# Altium footprint library alexsb.PCBLIB: 444 footprints (part 28 of 28)
Each footprint in its own frame and in the unit in brackets; x right, y up, seen from the top. Pads: shape width x height; smd on the part's side, far side on the other; paste and mask are expansions set on the pad; w line width, h text height; cw(c..) or ccw(c..) is an arc to the next point about the centre after c.
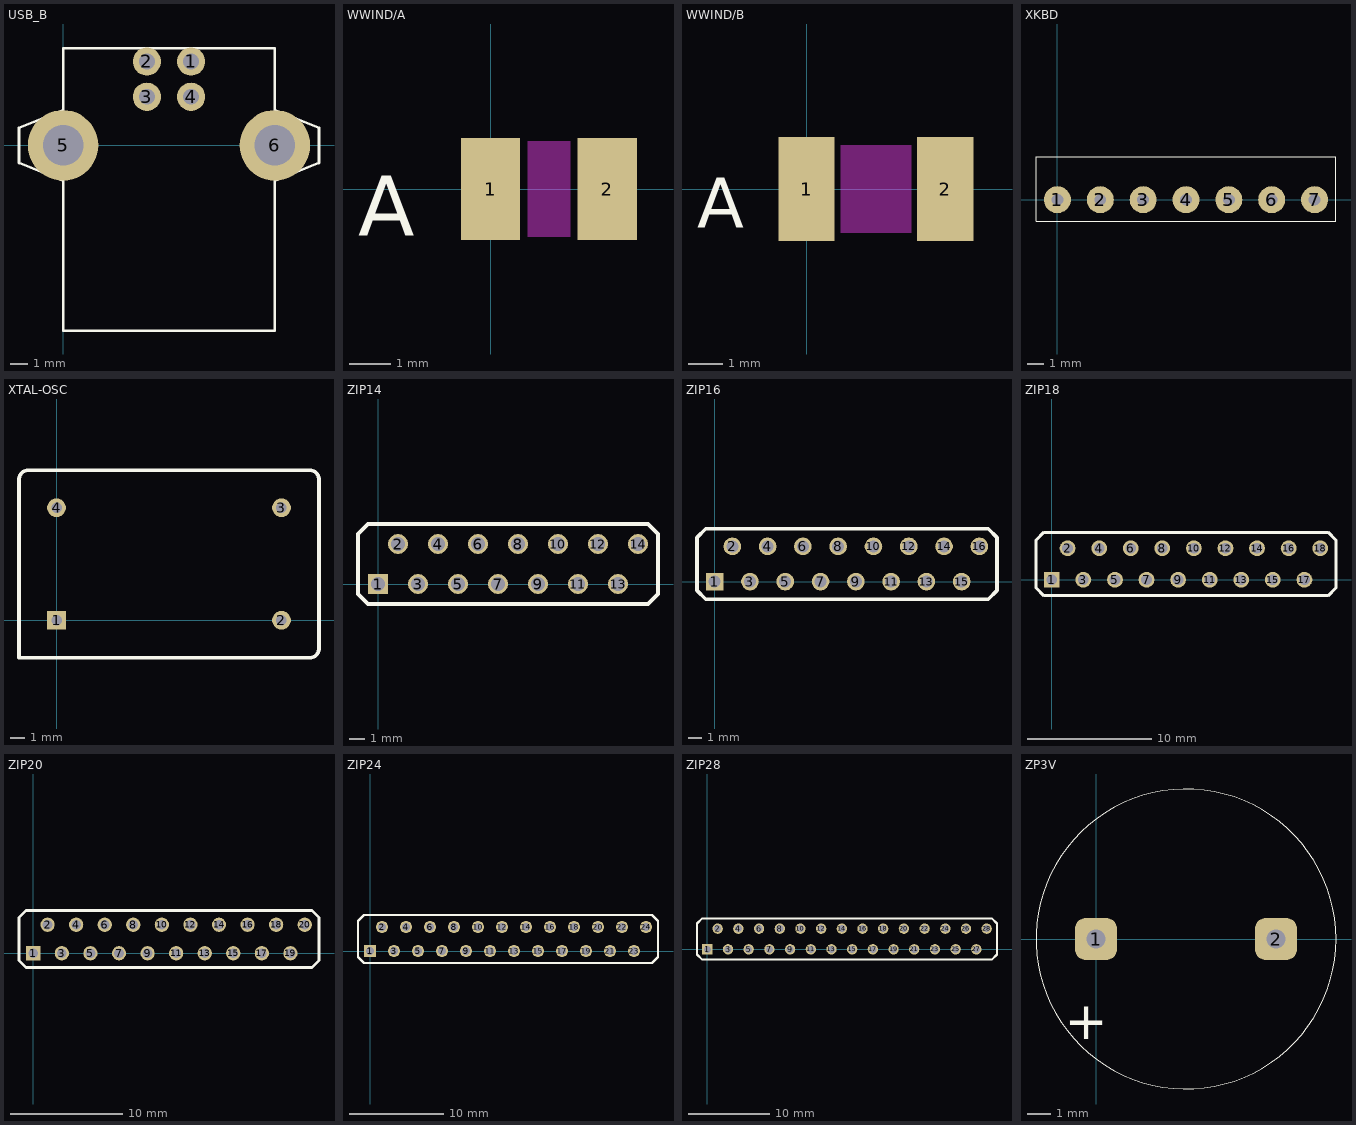
[diagram p27: the footprints below, top view; thin cyan lines are the x and y axes]

## USB_B [mm]
pads (6):
  round 1.6 hole 0.9: 1(7.25,4.75) 2(4.75,4.75) 3(4.75,2.75) 4(7.25,2.75)
  round 4 hole 2.3: 5(0,0) 6(12,0)
Top Overlay:
  lines w0.15: -1,-1.5 -1,1.5 ; 0,-2 -2.5,-1 -2.5,1 0,2 ; 12,-2 14.5,-1 14.5,1 12,2 ; 13,-1.5 13,1.5 ; 0,-10.5 12,-10.5 12,5.5 0,5.5 0,0 0,-10.5

## WWIND/A [mil]
pads (2):
  rect 56x96 smd: 1(0,0) 2(110,0)
Top Overlay:
  text "A" at -125,-44 h56.88
Multi-Layer keep-out:
  region: 75,-45 75,45 35,45 35,-45

## WWIND/B [mil]
pads (2):
  rect 64x118 smd: 1(0,0) 2(158,0)
Top Overlay:
  text "A" at -125,-44 h56.88
Multi-Layer keep-out:
  region: 119,-50 119,50 39,50 39,-50

## XKBD [mm]
pads (7):
  round 1.6 hole 0.7: 1(0,0) 2(2.54,0) 3(5.08,0) 4(7.62,0) 5(10.16,0) 6(12.7,0) 7(15.24,0)
Top Overlay:
  lines w0.05: -1.27,-1.27 16.51,-1.27 16.51,2.54 -1.27,2.54 -1.27,-1.27

## XTAL-OSC [mil]
pads (4):
  rect 50x50 hole 28: 1(0,0)
  round 50 hole 28: 2(600,0) 3(600,300) 4(0,300)
Top Overlay:
  lines w10: -100,-100 -100,375 cw(c-75,375) -75,400 675,400 cw(c675,375) 700,375 700,-75 cw(c675,-75) 675,-100 -100,-100

## ZIP14 [mil]
pads (14):
  rect 50x50 hole 34: 1(0,0)
  round 50 hole 34: 2(50,100) 3(100,0) 4(150,100) 5(200,0) 6(250,100) 7(300,0) 8(350,100) 9(400,0) 10(450,100) 11(500,0) 12(550,100) 13(600,0) 14(650,100)
Top Overlay:
  lines w10: -50,-25 -50,125 -25,150 675,150 700,125 700,-25 675,-50 -25,-50 -50,-25

## ZIP16 [mil]
pads (16):
  rect 50x50 hole 34: 1(0,0)
  round 50 hole 34: 2(50,100) 3(100,0) 4(150,100) 5(200,0) 6(250,100) 7(300,0) 8(350,100) 9(400,0) 10(450,100) 11(500,0) 12(550,100) 13(600,0) 14(650,100) 15(700,0) 16(750,100)
Top Overlay:
  lines w10: -50,-25 -50,125 -25,150 775,150 800,125 800,-25 775,-50 -25,-50 -50,-25

## ZIP18 [mil]
pads (18):
  rect 50x50 hole 34: 1(0,0)
  round 50 hole 34: 2(50,100) 3(100,0) 4(150,100) 5(200,0) 6(250,100) 7(300,0) 8(350,100) 9(400,0) 10(450,100) 11(500,0) 12(550,100) 13(600,0) 14(650,100) 15(700,0) 16(750,100) 17(800,0) 18(850,100)
Top Overlay:
  lines w10: -50,-25 -50,125 -25,150 875,150 900,125 900,-25 875,-50 -25,-50 -50,-25

## ZIP20 [mil]
pads (20):
  rect 50x50 hole 34: 1(0,0)
  round 50 hole 34: 2(50,100) 3(100,0) 4(150,100) 5(200,0) 6(250,100) 7(300,0) 8(350,100) 9(400,0) 10(450,100) 11(500,0) 12(550,100) 13(600,0) 14(650,100) 15(700,0) 16(750,100) 17(800,0) 18(850,100) 19(900,0) 20(950,100)
Top Overlay:
  lines w10: -50,-25 -50,125 -25,150 975,150 1000,125 1000,-25 975,-50 -25,-50 -50,-25

## ZIP24 [mil]
pads (24):
  rect 50x50 hole 34: 1(0,0)
  round 50 hole 34: 2(50,100) 3(100,0) 4(150,100) 5(200,0) 6(250,100) 7(300,0) 8(350,100) 9(400,0) 10(450,100) 11(500,0) 12(550,100) 13(600,0) 14(650,100) 15(700,0) 16(750,100) 17(800,0) 18(850,100) 19(900,0) 20(950,100) 21(1000,0) 22(1050,100) 23(1100,0) 24(1150,100)
Top Overlay:
  lines w10: -50,-25 -25,-50 1175,-50 1200,-25 1200,125 1175,150 -25,150 -50,125 -50,-25

## ZIP28 [mil]
pads (28):
  rect 50x50 hole 34: 1(0,0)
  round 50 hole 34: 2(50,100) 3(100,0) 4(150,100) 5(200,0) 6(250,100) 7(300,0) 8(350,100) 9(400,0) 10(450,100) 11(500,0) 12(550,100) 13(600,0) 14(650,100) 15(700,0) 16(750,100) 17(800,0) 18(850,100) 19(900,0) 20(950,100) 21(1000,0) 22(1050,100) 23(1100,0) 24(1150,100) 25(1200,0) 26(1250,100) 27(1300,0) 28(1350,100)
Top Overlay:
  lines w10: -50,-25 -50,125 -25,150 1375,150 1400,125 1400,-25 1375,-50 -25,-50 -50,-25

## ZP3V [mil]
pads (2):
  rrect50% 70x70 hole 31.5: 1(0,0) 2(300,0)
Top Overlay:
  circle w1.97: c150,0 r250
  text "+" at -51.8,-167.42 h62.5